# Altium schematic symbol library 5530843-6.SchLib: 1 symbol
Pins are listed as number, name and electrical type; pins without a type are passive.

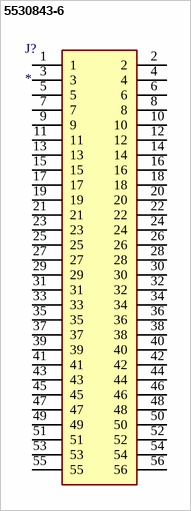
[diagram p0: symbol 5530843-6]

## 5530843-6
designator J?
Connector; Manufacturer_Name: TE Connectivity; Manufacturer_Part_Number: 5530843-6; Datasheet Link: http://www.te.com/commerce/DocumentDelivery/DDEController?Action=srchrtrv&DocNm=5530843&DocType=Customer+Drawing&DocLang=English; Height: 13.97mm; Mouser Part Number: 571-5530843-6; Mouser Price/Stock: https://www.mouser.com/Search/Refine.aspx?Keyword=571-5530843-6
footprint SHDR56W51P485X254_2X28_7785X928X1397P
pins: 1, 2, 3, 4, 5, 6, 7, 8, 9, 10, 11, 12, 13, 14, 15, 16, 17, 18, 19, 20, 21, 22, 23, 24, 25, 26, 27, 28, 29, 30, 31, 32, 33, 34, 35, 36, 37, 38, 39, 40, 41, 42, 43, 44, 45, 46, 47, 48, 49, 50, 51, 52, 53, 54, 55, 56